# Altium footprint library Jack_PCB_Lib1.PcbLib: 66 footprints (part 5 of 5)
Each footprint in its own frame and in the unit in brackets; x right, y up, seen from the top. Pads: shape width x height; smd on the part's side, far side on the other; paste and mask are expansions set on the pad; w line width, h text height; cw(c..) or ccw(c..) is an arc to the next point about the centre after c.
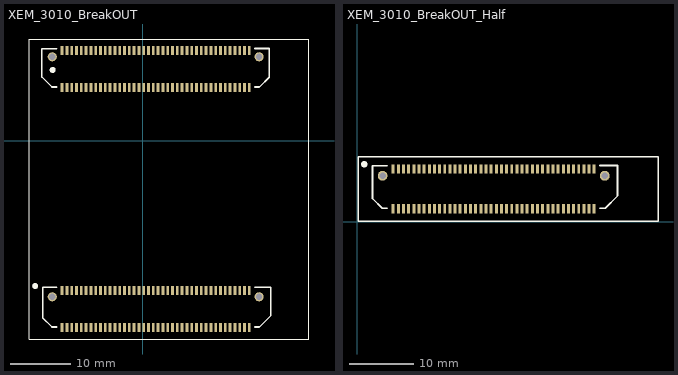
[diagram p4: the footprints below, top view; thin cyan lines are the x and y axes]

## XEM_3010_BreakOUT [mm]
pads (164):
  rect 0.46x1.45 smd: X1(-13.434,-24.941) X2(-13.434,-31.111) X3(-12.634,-24.941) X4(-12.634,-31.111) X5(-11.834,-24.941) X6(-11.834,-31.111) X7(-11.034,-24.941) X8(-11.034,-31.111) X9(-10.234,-24.941) X10(-10.234,-31.111) X11(-9.434,-24.941) X12(-9.434,-31.111) X13(-8.634,-24.941) X14(-8.634,-31.111) X15(-7.834,-24.941) X16(-7.834,-31.111) X17(-7.034,-24.941) X18(-7.034,-31.111) X19(-6.234,-24.941) X20(-6.234,-31.111) X21(-5.434,-24.941) X22(-5.434,-31.111) X23(-4.634,-24.941) X24(-4.634,-31.111) X25(-3.834,-24.941) X26(-3.834,-31.111) X27(-3.034,-24.941) X28(-3.034,-31.111) X29(-2.234,-24.941) X30(-2.234,-31.111) X31(-1.434,-24.941) X32(-1.434,-31.111) X33(-0.634,-24.941) X34(-0.634,-31.111) X35(0.166,-24.941) X36(0.166,-31.111) X37(0.966,-24.941) X38(0.966,-31.111) X39(1.766,-24.941) X40(1.766,-31.111) X41(2.566,-24.941) X42(2.566,-31.111) X43(3.366,-24.941) X44(3.366,-31.111) X45(4.166,-24.941) X46(4.166,-31.111) X47(4.966,-24.941) X48(4.966,-31.111) X49(5.766,-24.941) X50(5.766,-31.111) X51(6.566,-24.941) X52(6.566,-31.111) X53(7.366,-24.941) X54(7.366,-31.111) X55(8.166,-24.941) X56(8.166,-31.111) X57(8.966,-24.941) X58(8.966,-31.111) X59(9.766,-24.941) X60(9.766,-31.111) X61(10.566,-24.941) X62(10.566,-31.111) X63(11.366,-24.941) X64(11.366,-31.111) X65(12.166,-24.941) X66(12.166,-31.111) X67(12.966,-24.941) X68(12.966,-31.111) X69(13.766,-24.941) X70(13.766,-31.111) X71(14.566,-24.941) X72(14.566,-31.111) X73(15.366,-24.941) X74(15.366,-31.111) X75(16.166,-24.941) X76(16.166,-31.111) X77(16.966,-24.941) X78(16.966,-31.111) X79(17.766,-24.941) X80(17.766,-31.111) Y1(-13.434,15.059) Y2(-13.434,8.889) Y3(-12.634,15.059) Y4(-12.634,8.889) Y5(-11.834,15.059) Y6(-11.834,8.889) Y7(-11.034,15.059) Y8(-11.034,8.889) Y9(-10.234,15.059) Y10(-10.234,8.889) Y11(-9.434,15.059) Y12(-9.434,8.889) Y13(-8.634,15.059) Y14(-8.634,8.889) Y15(-7.834,15.059) Y16(-7.834,8.889) Y17(-7.034,15.059) Y18(-7.034,8.889) Y19(-6.234,15.059) Y20(-6.234,8.889) Y21(-5.434,15.059) Y22(-5.434,8.889) Y23(-4.634,15.059) Y24(-4.634,8.889) Y25(-3.834,15.059) Y26(-3.834,8.889) Y27(-3.034,15.059) Y28(-3.034,8.889) Y29(-2.234,15.059) Y30(-2.234,8.889) Y31(-1.434,15.059) Y32(-1.434,8.889) Y33(-0.634,15.059) Y34(-0.634,8.889) Y35(0.166,15.059) Y36(0.166,8.889) Y37(0.966,15.059) Y38(0.966,8.889) Y39(1.766,15.059) Y40(1.766,8.889) Y41(2.566,15.059) Y42(2.566,8.889) Y43(3.366,15.059) Y44(3.366,8.889) Y45(4.166,15.059) Y46(4.166,8.889) Y47(4.966,15.059) Y48(4.966,8.889) Y49(5.766,15.059) Y50(5.766,8.889) Y51(6.566,15.059) Y52(6.566,8.889) Y53(7.366,15.059) Y54(7.366,8.889) Y55(8.166,15.059) Y56(8.166,8.889) Y57(8.966,15.059) Y58(8.966,8.889) Y59(9.766,15.059) Y60(9.766,8.889) Y61(10.566,15.059) Y62(10.566,8.889) Y63(11.366,15.059) Y64(11.366,8.889) Y65(12.166,15.059) Y66(12.166,8.889) Y67(12.966,15.059) Y68(12.966,8.889) Y69(13.766,15.059) Y70(13.766,8.889) Y71(14.566,15.059) Y72(14.566,8.889) Y73(15.366,15.059) Y74(15.366,8.889) Y75(16.166,15.059) Y76(16.166,8.889) Y77(16.966,15.059) Y78(16.966,8.889) Y79(17.766,15.059) Y80(17.766,8.889)
  round 1.524 hole 1.02: X81(-15.069,-25.991) X82(19.401,-25.991) Y81(-15.069,14.009) Y82(19.401,14.009)
Top Overlay:
  circle w0.5: c-17.913,-24.198 r0.25
  circle w0.5: c-15.001,11.82 r0.25
  lines w0.203: -18.897,-33.026 27.666,-33.026 27.666,16.974 -18.897,16.974 -18.897,-33.026
  lines w0.254: -14.334,-31.026 -15.134,-31.026 -16.65,-29.51 -16.65,-24.438 -14.334,-24.438 ; -14.334,8.974 -15.134,8.974 -16.796,10.636 -16.796,15.338 -14.334,15.338 ; 18.666,-31.026 19.466,-31.026 21.378,-29.114 21.378,-24.4 18.666,-24.4 ; 18.666,8.974 19.466,8.974 21.075,10.583 21.075,15.392 18.666,15.392

## XEM_3010_BreakOUT_Half [mm]
pads (82):
  rect 0.46x1.45 smd: X1(5.592,8.214) X2(5.592,2.044) X3(6.392,8.214) X4(6.392,2.044) X5(7.192,8.214) X6(7.192,2.044) X7(7.992,8.214) X8(7.992,2.044) X9(8.792,8.214) X10(8.792,2.044) X11(9.592,8.214) X12(9.592,2.044) X13(10.392,8.214) X14(10.392,2.044) X15(11.192,8.214) X16(11.192,2.044) X17(11.992,8.214) X18(11.992,2.044) X19(12.792,8.214) X20(12.792,2.044) X21(13.592,8.214) X22(13.592,2.044) X23(14.392,8.214) X24(14.392,2.044) X25(15.192,8.214) X26(15.192,2.044) X27(15.992,8.214) X28(15.992,2.044) X29(16.792,8.214) X30(16.792,2.044) X31(17.592,8.214) X32(17.592,2.044) X33(18.392,8.214) X34(18.392,2.044) X35(19.192,8.214) X36(19.192,2.044) X37(19.992,8.214) X38(19.992,2.044) X39(20.792,8.214) X40(20.792,2.044) X41(21.592,8.214) X42(21.592,2.044) X43(22.392,8.214) X44(22.392,2.044) X45(23.192,8.214) X46(23.192,2.044) X47(23.992,8.214) X48(23.992,2.044) X49(24.792,8.214) X50(24.792,2.044) X51(25.592,8.214) X52(25.592,2.044) X53(26.392,8.214) X54(26.392,2.044) X55(27.192,8.214) X56(27.192,2.044) X57(27.992,8.214) X58(27.992,2.044) X59(28.792,8.214) X60(28.792,2.044) X61(29.592,8.214) X62(29.592,2.044) X63(30.392,8.214) X64(30.392,2.044) X65(31.192,8.214) X66(31.192,2.044) X67(31.992,8.214) X68(31.992,2.044) X69(32.792,8.214) X70(32.792,2.044) X71(33.592,8.214) X72(33.592,2.044) X73(34.392,8.214) X74(34.392,2.044) X75(35.192,8.214) X76(35.192,2.044) X77(35.992,8.214) X78(35.992,2.044) X79(36.792,8.214) X80(36.792,2.044)
  round 1.524 hole 1.02: X81(3.957,7.164) X82(38.427,7.164)
Top Overlay:
  circle w0.5: c1.113,8.956 r0.25
  lines w0.203: 0.129,0.129 46.692,0.129 46.692,10.099 0.129,10.099 0.129,0.129
  lines w0.254: 4.692,2.129 3.892,2.129 2.376,3.644 2.376,8.717 4.692,8.717 ; 37.692,2.129 38.492,2.129 40.403,4.04 40.403,8.755 37.692,8.755